# Altium integrated library Analog Devices Switches and Multiplexers Digital Crosspoint Switches.IntLib: 20 symbols (part 4 of 4)
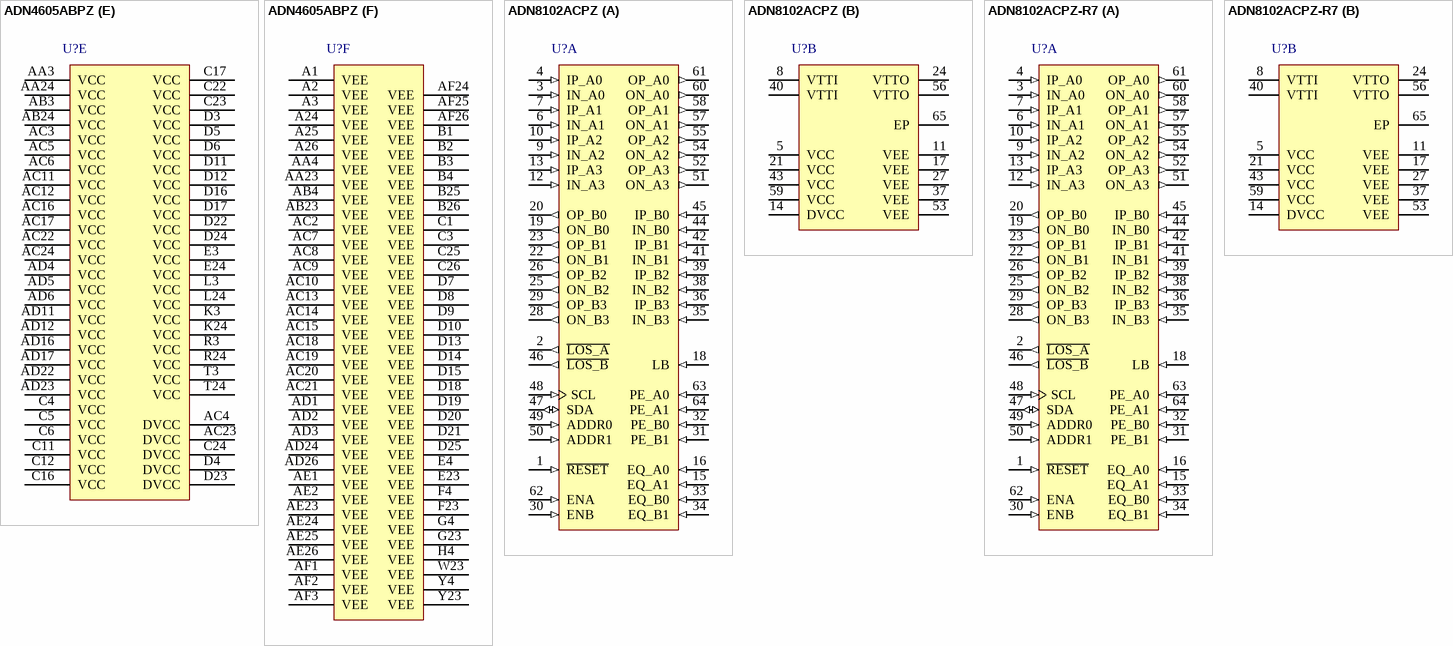
[diagram p7: symbols ADN4605ABPZ to ADN8102ACPZ-R7]

## ADN8102ACPZ-R7
designator U?
Xstream(TM) 3.75 Gbps Quad Bidirectional CX4 Equalizer, 1 ns Prop Delay, -40 to 85 degC, 64-pin QFN (CP-64-2), Reel; Manufacturer: Analog Devices; PartNumber: ADN8102ACPZ-R7; Control Interface: I2C; Data Rate (Gbps): 3.75; Input Swing (mV p-p): 300-2000; Prop Delay: 1ns; Output Rise/Fall (ps): 75; Supply Current: 565mA; DatasheetVersion: Rev. B; PackageReference: CP-64-2; PackageDescription: 64-Pin Lead Frame Chip Scale Package, Body 9 x 9 mm, Pitch 0.5 mm; Supplier 1: Digi-Key; Supplier Part Number 1: ADN8102ACPZ-R7-ND; Supplier 2: Mouser; Supplier Part Number 2: 584-ADN8102ACPZ-R7; Packing: Reel; Mounting Technology: Surface Mount; Code_JEDEC: MO-220-VMMD-4; ComponentLink1Description: Manufacturer URL; ComponentLink1URL: http://www.analog.com/en/index.html; ComponentLink2Description: Datasheet; ComponentLink2URL: http://www.analog.com/static/imported-files/data_sheets/ADN8102.pdf; ComponentLink3Description: Package Specification; ComponentLink3URL: http://www.analog.com/static/imported-files/packages/CP_64_2.pdf
footprint ADI-CP-64-2_N (QFN, 64-Leads, Body 9x9mm, Pitch 0.5mm, Thermal Pad 6x6mm, IPC Medium Density)
footprint ADI-CP-64-2_L (QFN, 64-Leads, Body 9x9mm, Pitch 0.5mm, Thermal Pad 6x6mm, IPC High Density)
footprint ADI-CP-64-2_M (QFN, 64-Leads, Body 9x9mm, Pitch 0.5mm, Thermal Pad 6x6mm, IPC Low Density)
part A pins: 1 ~{RESET} (in) "Reset Input, Active Low", 2 ~{LOS_A} (out) "Port A Loss of Signal Status, Active Low", 3 IN_A0 (in) "High Speed Input Complement", 4 IP_A0 (in) "High Speed Input", 6 IN_A1 (in) "High Speed Input Complement", 7 IP_A1 (in) "High Speed Input", 9 IN_A2 (in) "High Speed Input Complement", 10 IP_A2 (in) "High Speed Input", 12 IN_A3 (in) "High Speed Input Complement", 13 IP_A3 (in) "High Speed Input", 15 EQ_A1 (in) "Port A Input Equalization MSB", 16 EQ_A0 (in) "Port A Input Equalization LSB", 18 LB (in) "Loopback Control", 19 ON_B0 (out) "High Speed Output Complement", 20 OP_B0 (out) "High Speed Output", 22 ON_B1 (out) "High Speed Output Complement", 23 OP_B1 (out) "High Speed Output", 25 ON_B2 (out) "High Speed Output Complement", 26 OP_B2 (out) "High Speed Output", 28 ON_B3 (out) "High Speed Output Complement", 29 OP_B3 (out) "High Speed Output", 30 ENB (in) "Port B Enable", 31 PE_B1 (in) "Port B Output Pre-Emphasis MSB", 32 PE_B0 (in) "Port B Output Pre-Emphasis LSB", 33 EQ_B0 (in) "Port B Input Equalization LSB", 34 EQ_B1 (in) "Port B Input Equalization MSB", 35 IN_B3 (in) "High Speed Input Complement", 36 IP_B3 (in) "High Speed Input", 38 IN_B2 (in) "High Speed Input Complement", 39 IP_B2 (in) "High Speed Input", 41 IN_B1 (in) "High Speed Input Complement", 42 IP_B1 (in) "High Speed Input", 44 IN_B0 (in) "High Speed Input Complement", 45 IP_B0 (in) "High Speed Input", 46 ~{LOS_B} (out) "Port B Loss of Signal Status, Active Low", 47 SDA (io) "I2C Control Interface Data Input/Output", 48 SCL (in) "I2C Control Interface Clock Input", 49 ADDR0 (in) "I2C Control Interface Address LSB", 50 ADDR1 (in) "I2C Control Interface Address MSB", 51 ON_A3 (out) "High Speed Output Complement", 52 OP_A3 (out) "High Speed Output", 54 ON_A2 (out) "High Speed Output Complement", 55 OP_A2 (out) "High Speed Output", 57 ON_A1 (out) "High Speed Output Complement", 58 OP_A1 (out) "High Speed Output", 60 ON_A0 (out) "High Speed Output Complement", 61 OP_A0 (out) "High Speed Output", 62 ENA (in) "Port A Enable", 63 PE_A0 (in) "Port A Output Pre-Emphasis LSB", 64 PE_A1 (in) "Port A Output Pre-Emphasis MSB"
part B pins: 5 VCC (power) "Positive Supply", 8 VTTI (power) "Input Termination Supply", 11 VEE (power) "Negative Supply", 14 DVCC (power) "Digital Power Supply", 17 VEE (power) "Negative Supply", 21 VCC (power) "Positive Supply", 24 VTTO (power) "Output Termination Supply", 27 VEE (power) "Negative Supply", 37 VEE (power) "Negative Supply", 40 VTTI (power) "Input Termination Supply", 43 VCC (power) "Positive Supply", 53 VEE (power) "Negative Supply", 56 VTTO (power) "Output Termination Supply", 59 VCC (power) "Positive Supply", 65 EP (power) "EPAD Must Be Connected to VEE"